# EAGLE library part CPC2017N (library optoelectronics)
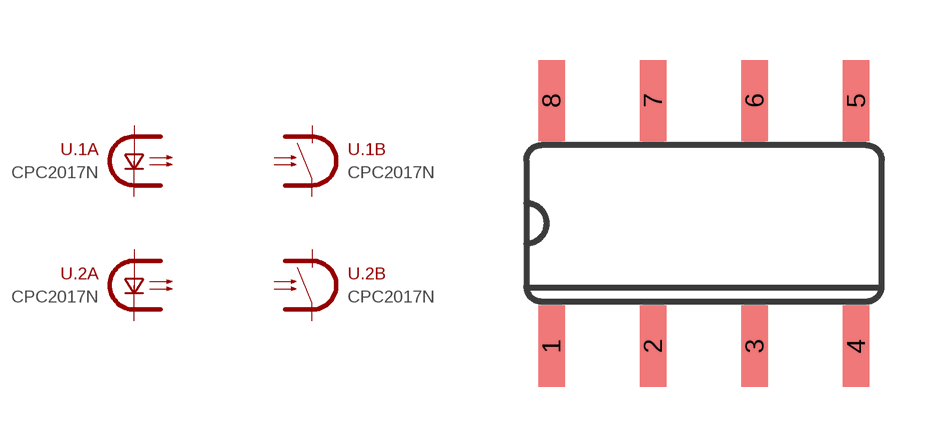
[diagram p2: symbol with the pads of CPC2017N; footprint CPC2017N]

Designator prefix U; gates .1A=OPTO-LED .2A=OPTO-LED .1B=OPTO-SSR .2B=OPTO-SSR

## CPC2017N (MOUSER: 849-CPC2017N)  [CPC2017N]
1  .1A:A  pas
2  .1A:C  pas
3  .2A:A  pas
4  .2A:C  pas
5  .2B:S2  pas
6  .2B:S1  pas
7  .1B:S2  pas
8  .1B:S1  pas

## Footprint CPC2017N (pad centres in mm)
Small Outline package 150 mil
smd 0.66 x 2.032: 1 -3.81,-3.073; 2 -1.27,-3.073; 3 1.27,-3.073; 4 3.81,-3.073; 5 3.81,3.073; 6 1.27,3.073; 7 -1.27,3.073; 8 -3.81,3.073